# Altium footprint library 4320.PcbLib: 1 footprints
Each footprint in its own frame and in the unit in brackets; x right, y up, seen from the top. Pads: shape width x height; smd on the part's side, far side on the other; paste and mask are expansions set on the pad; w line width, h text height; cw(c..) or ccw(c..) is an arc to the next point about the centre after c.
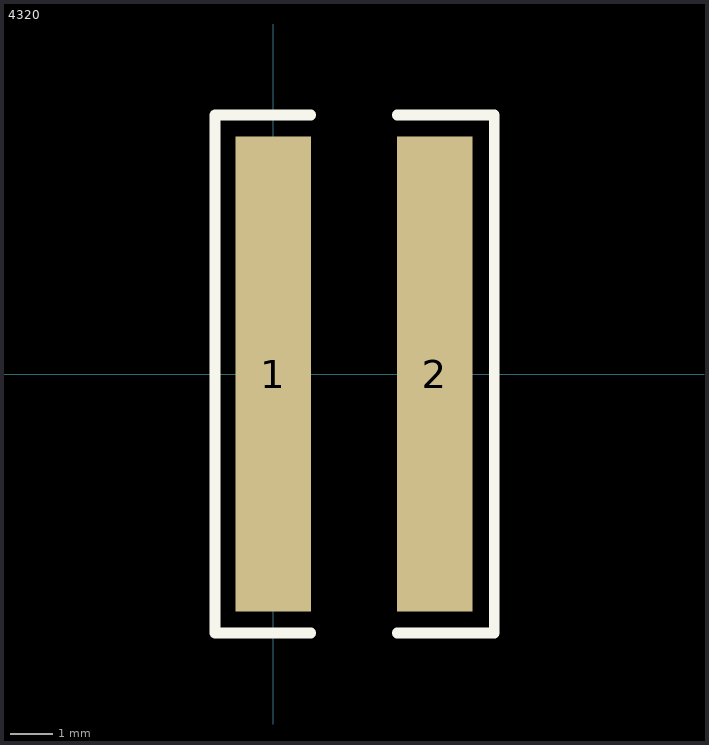
[diagram p0: the footprint, top view; thin cyan lines are the x and y axes]

## 4320 [mil] "0.197\" L x 0.433\" W (5.00mm x 11.00mm)"
height 0.5
pads (2):
  rect 70x440 smd: 1(0,0) 2(150,0)
Top Overlay:
  lines w10: 35,-240 -54,-240 -54,240 35,240 ; 115,-240 205,-240 205,240 115,240